# Altium footprint library NCV8705MT33TCG.PcbLib: 3 footprints
Each footprint in its own frame and in the unit in brackets; x right, y up, seen from the top. Pads: shape width x height; smd on the part's side, far side on the other; paste and mask are expansions set on the pad; w line width, h text height; cw(c..) or ccw(c..) is an arc to the next point about the centre after c.
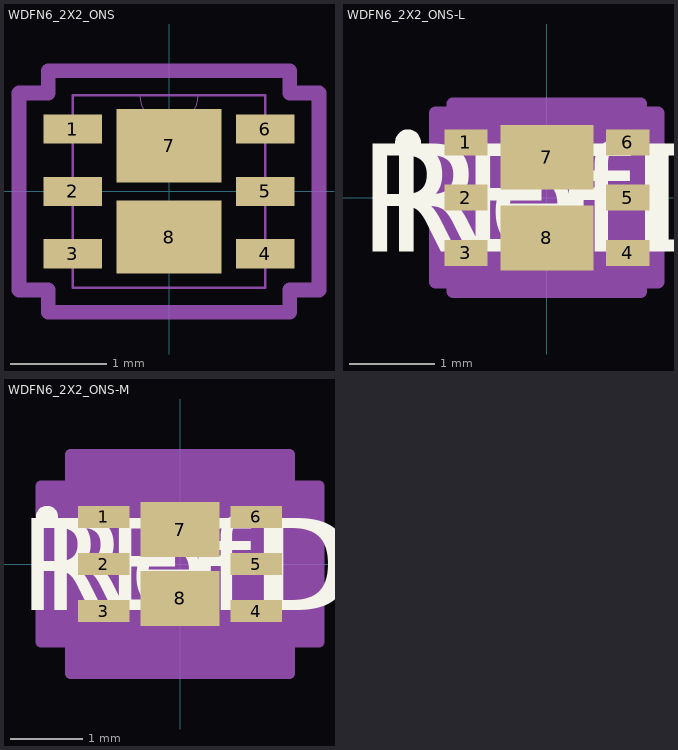
[diagram p0: the footprints below, top view; thin cyan lines are the x and y axes]

## WDFN6_2X2_ONS [mil]
pads (8):
  rect 24x12 smd paste+0 mask+0: 1(-39.5,25.59) 2(-39.5,0) 3(-39.5,-25.59) 4(39.5,-25.59) 5(39.5,0) 6(39.5,25.59)
  rect 43x30 smd paste+0 mask+0: 7(0,18.7) 8(0,-18.7)
Mechanical 13:
  lines w0: -12,39.5 ccw(c0,39.5) 12,39.5
  lines w1: -39.5,-39.5 -39.5,39.5 39.5,39.5 39.5,-39.5 -39.5,-39.5
Mechanical 15:
  lines w6: -61.5,-40.39 -49.5,-40.39 -49.5,-49.5 49.5,-49.5 49.5,-40.39 61.5,-40.39 61.5,40.39 49.5,40.39 49.5,49.5 -49.5,49.5 -49.5,40.39 -61.5,40.39 -61.5,-40.39
3D body "NCV8705MT33TCG.STEP": height 31.5, standoff 0, extent -39.37,-39.37 39.37,39.37

## WDFN6_2X2_ONS-L [mil]
pads (8):
  rect 20x12 smd paste+0 mask+0: 1(-37.5,25.59) 2(-37.5,0) 3(-37.5,-25.59) 4(37.5,-25.59) 5(37.5,0) 6(37.5,25.59)
  rect 43x30 smd paste+0 mask+0: 7(0,18.7) 8(0,-18.7)
Top Overlay:
  circle w6: c-64.3,25.59 r3
  text "RefDes" at -75,-25 h50
  text "REFDES" at -87.5,-25 h50
Mechanical 13:
  circle w0: c-27.5,25.59 r3
  lines w0: -12,39.5 ccw(c0,39.5) 12,39.5
  lines w1: -39.5,-39.5 39.5,-39.5 39.5,39.5 -39.5,39.5 -39.5,-39.5
  text "RefDes2" at -87.5,-25 h50
Mechanical 15:
  region: -43.5,-39.19 -51.5,-39.19 -51.5,39.19 -43.5,39.19 -43.5,43.5 43.5,43.5 43.5,39.19 51.5,39.19 51.5,-39.19 43.5,-39.19 43.5,-43.5 -43.5,-43.5
  lines w6: -51.5,-39.19 -51.5,39.19 -43.5,39.19 -43.5,43.5 43.5,43.5 43.5,39.19 51.5,39.19 51.5,-39.19 43.5,-39.19 43.5,-43.5 -43.5,-43.5 -43.5,-39.19 -51.5,-39.19

## WDFN6_2X2_ONS-M [mil]
pads (8):
  rect 28x12 smd paste+0 mask+0: 1(-41.5,25.59) 2(-41.5,0) 3(-41.5,-25.59) 4(41.5,-25.59) 5(41.5,0) 6(41.5,25.59)
  rect 43x30 smd paste+0 mask+0: 7(0,18.7) 8(0,-18.7)
Top Overlay:
  circle w6: c-72.3,25.59 r3
  text "RefDes" at -75,-25 h50
  text "REFDES" at -87.5,-25 h50
Mechanical 13:
  circle w0: c-27.5,25.59 r3
  lines w0: -12,39.5 ccw(c0,39.5) 12,39.5
  lines w1: -39.5,-39.5 39.5,-39.5 39.5,39.5 -39.5,39.5 -39.5,-39.5
  text "RefDes2" at -87.5,-25 h50
Mechanical 15:
  region: -59.5,-42.39 -75.5,-42.39 -75.5,42.39 -59.5,42.39 -59.5,59.5 59.5,59.5 59.5,42.39 75.5,42.39 75.5,-42.39 59.5,-42.39 59.5,-59.5 -59.5,-59.5
  lines w6: -75.5,-42.39 -75.5,42.39 -59.5,42.39 -59.5,59.5 59.5,59.5 59.5,42.39 75.5,42.39 75.5,-42.39 59.5,-42.39 59.5,-59.5 -59.5,-59.5 -59.5,-42.39 -75.5,-42.39